# Altium schematic symbol library Res_Vishay_CRCW0805200RFKEA_eec.SchLib: 1 symbol
Pins are listed as number, name and electrical type; pins without a type are passive.

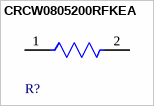
[diagram p0: symbol CRCW0805200RFKEA]

## CRCW0805200RFKEA
designator R?  (value not drawn)
pins: 1, 2